# EAGLE library part TIS2-3 (library 5559)
Transformer TIS2-3 ТИС предназначен для применения в системах передачи данных и информации на базе стандартных интерфейсов цифровых сетей по ГОСТ Р 52070-2003 (MIL_STD_1553). More info here <http://mstator.ru/products/pulse_transformers/tis>
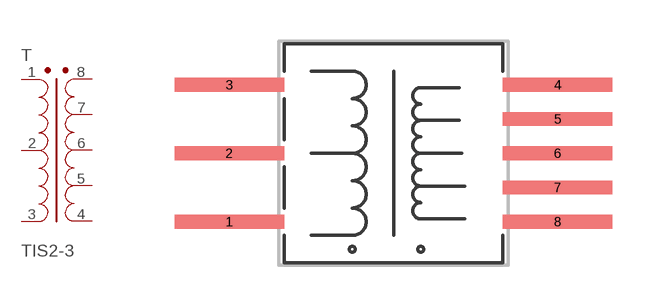
[diagram p1: symbol with the pads of TIS2-3; footprint TIS2-3]

Designator prefix T

## TIS2-3  [TIS2-3]
1  1  pas
2  2  pas
3  3  pas
4  4  pas
5  5  pas
6  6  pas
7  7  pas
8  8  pas

## Footprint TIS2-3 (pad centres in mm)
smd 4 x 0.5: 1 -6,-2.5; 2 -6,0; 3 -6,2.5; 4 6,2.5; 5 6,1.25; 6 6,0; 7 6,-1.25; 8 6,-2.5